# Altium schematic symbol library RJMG163128101NR.Schlib: 1 symbol
Pins are listed as number, name and electrical type; pins without a type are passive.

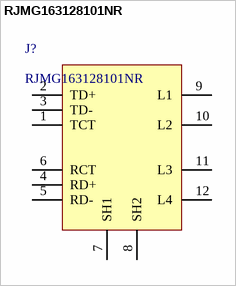
[diagram p0: symbol RJMG163128101NR]

## RJMG163128101NR
designator J?
pins: 1 TCT, 2 TD+, 3 TD-, 4 RD+, 5 RD-, 6 RCT, 7 SH1, 8 SH2, 9 L1, 10 L2, 11 L3, 12 L4